# Altium footprint library kutuphane.PcbLib: 6 footprints
Each footprint in its own frame and in the unit in brackets; x right, y up, seen from the top. Pads: shape width x height; smd on the part's side, far side on the other; paste and mask are expansions set on the pad; w line width, h text height; cw(c..) or ccw(c..) is an arc to the next point about the centre after c.
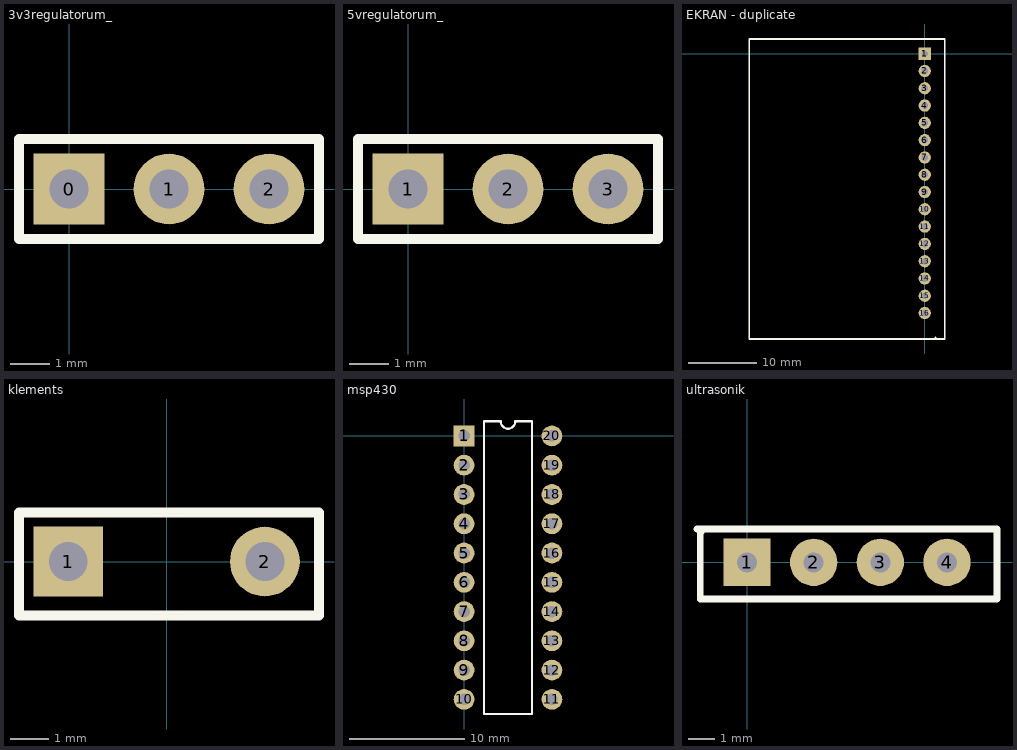
[diagram p0: the footprints below, top view; thin cyan lines are the x and y axes]

## 3v3regulatorum_ [mm]
pads (3):
  rect 1.8x1.8 hole 1: 0(0,0)
  round 1.8 hole 1: 1(2.54,0) 2(5.08,0)
Top Overlay:
  lines w0.254: -1.27,-1.27 -1.27,1.27 6.35,1.27 6.35,-1.27 -1.27,-1.27
3D body: height 7, standoff 5, extent -1.27,-1.27 6.35,1.27

## 5vregulatorum_ [mm]
pads (3):
  rect 1.8x1.8 hole 1: 1(0,0)
  round 1.8 hole 1: 2(2.54,0) 3(5.08,0)
Top Overlay:
  lines w0.254: -1.27,-1.27 6.35,-1.27 6.35,1.27 -1.27,1.27 -1.27,-1.27
3D body: height 7, standoff 5, extent -1.27,-1.27 6.35,1.27

## EKRAN - duplicate [mm]
pads (16):
  rect 1.8x1.8 hole 1: 1(0,0)
  round 1.8 hole 1: 2(0,-2.54) 3(0,-5.08) 4(0,-7.62) 5(0,-10.16) 6(0,-12.7) 7(0,-15.24) 8(0,-17.78) 9(0,-20.32) 10(0,-22.86) 11(0,-25.4) 12(0,-27.94) 13(0,-30.48) 14(0,-33.02) 15(0,-35.56) 16(0,-38.1)
Top Overlay:
  lines w0.254: 1.524,-41.656 1.778,-41.91 2.921,-41.91 2.921,2.159 -25.781,2.159 -25.781,-41.91 2.413,-41.91
3D body: height 8, standoff 3, extent -25.781,-41.783 2.794,2.159

## klements [mm]
pads (2):
  rect 1.8x1.8 hole 1: 1(-2.54,0)
  round 1.8 hole 1: 2(2.54,0)
Top Overlay:
  lines w0.254: -3.81,-1.397 3.937,-1.397 3.937,1.27 -3.81,1.27 -3.81,-1.397

## msp430 [mm]
pads (20):
  rect 1.8x1.8 hole 1: 1(0,0)
  round 1.8 hole 1: 2(0,-2.54) 3(0,-5.08) 4(0,-7.62) 5(0,-10.16) 6(0,-12.7) 7(0,-15.24) 8(0,-17.78) 9(0,-20.32) 10(0,-22.86) 11(7.62,-22.86) 12(7.62,-20.32) 13(7.62,-17.78) 14(7.62,-15.24) 15(7.62,-12.7) 16(7.62,-10.16) 17(7.62,-7.62) 18(7.62,-5.08) 19(7.62,-2.54) 20(7.62,0)
Top Overlay:
  lines w0.2: 1.735,-24.13 5.885,-24.13 5.885,1.27 4.445,1.27 cw(c3.81,1.27) 3.175,1.27 1.735,1.27 1.735,-24.13

## ultrasonik [mm]
pads (4):
  rect 1.8x1.8 hole 0.762: 1(0,0)
  round 1.8 hole 0.762: 2(2.54,0) 3(5.08,0) 4(7.62,0)
Top Overlay:
  lines w0.254: -1.905,1.27 9.525,1.27 9.525,-1.397 -1.778,-1.397 -1.778,1.143 -1.651,1.27
3D body: height 7, standoff 2, extent -1.778,-1.397 9.525,1.27